# Altium schematic symbol library M1-Test-Board.SCHLIB: 52 symbols (part 2 of 2)
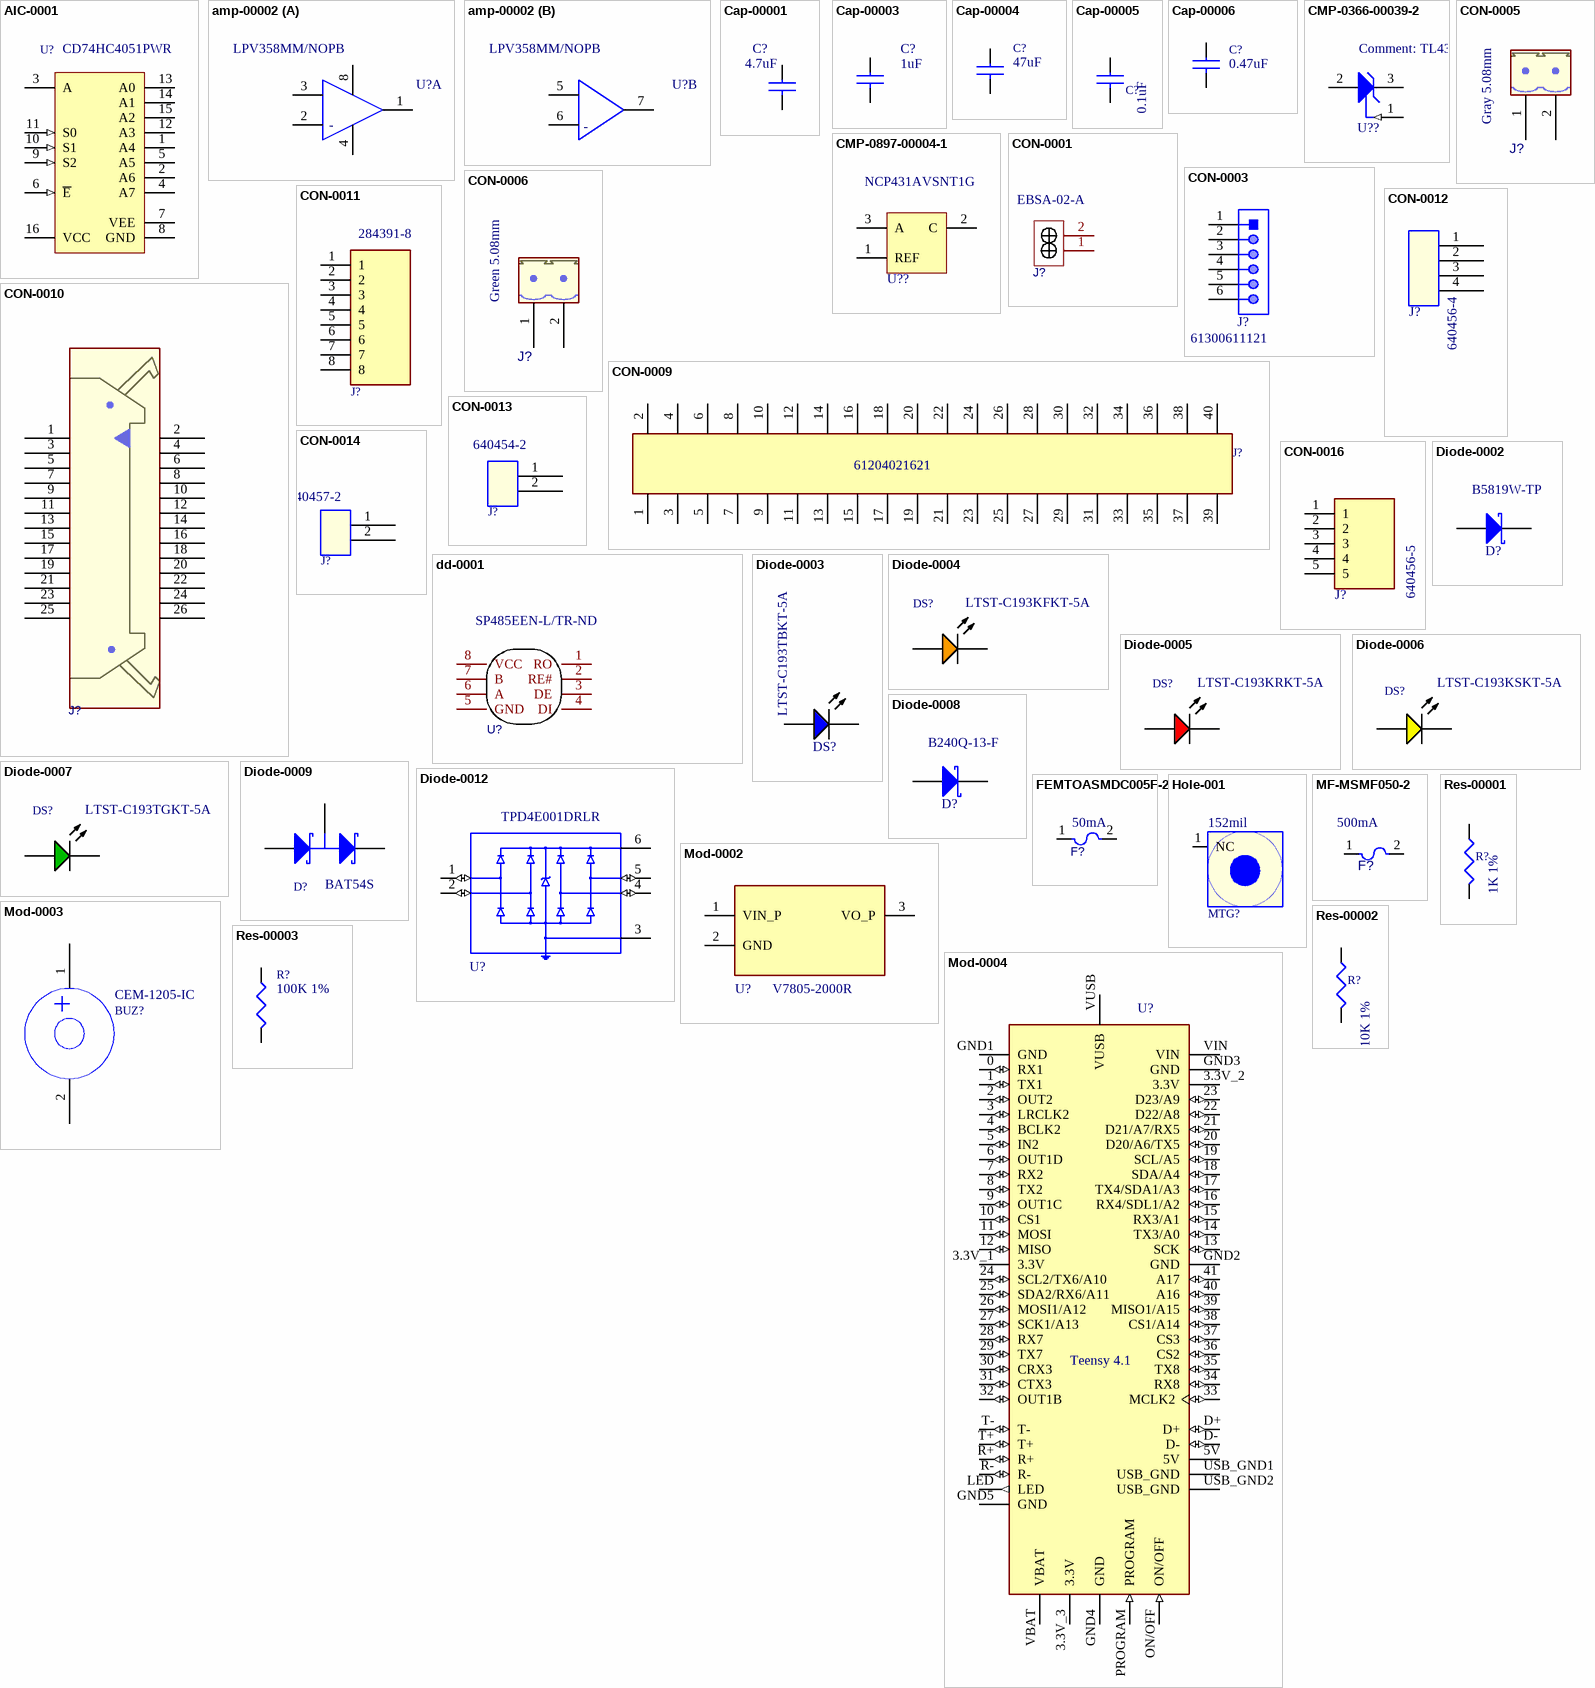
[diagram p2: symbols AIC-0001 to Res-00003]

## Diode-0012
designator U?, comment TPD4E001DRLR
TVS DIODE 5.5VWM SOT6; Manufacturer: Texas Instruments; Capacitance: 1.5pF; Max Power Dissipation: 100W; Breakdown Voltage: 11V; Direction: Unidirectional; Reverse Standoff Voltage: 5.5V; Clamping Voltage: 105.5V; Power Line Protection: Yes; Number of Channels: 4; Leakage Current: 1nA; Peak Pulse Current: 5.5A; Interface: LVDS,USB,Ethernet; Part Name: Diode-0012; Supplier 1: Digi-Key; Supplier Part Number 1: 296-21887-1-ND; Manufacturer Part Number: TPD4E001DRLR; RoHS: Yes; Category: ESD and Circuit Protection ICs; Stock 1: 42388; Pricing 1: 1=0.66000, 10=0.58100, 100=0.44520, 500=0.351; Mount: Surface Mount; Case/Package: SOT; Packaging: Tape and Reel; RoHS Compliant: Yes; ComponentLink1URL: https://datasheet.ciiva.com/5839/1535398-5839; ComponentLink1Description: https://datasheet.ciiva.com/5839/1535398-5839; ComponentLink2URL: https://datasheet.ciiva.com/22696/1831342-226; ComponentLink2Description: https://datasheet.ciiva.com/22696/1831342-226; ComponentLink3URL: https://datasheet.ciiva.com/1219/tpd4e001-121; ComponentLink3Description: https://datasheet.ciiva.com/1219/tpd4e001-121; Number of Pins: 6; Min Operating Temperature: -40°C; Max Operating Temperature: 85°C; Package Quantity: 1; Series: -; Radiation Hardening: No; Lead Free: Lead Free; ComponentLink4URL: https://datasheet.ciiva.com/15134/getdatashee; ComponentLink4Description: https://datasheet.ciiva.com/15134/getdatashee; ComponentLink5URL: https://datasheet.ciiva.com/7659/1853592-7659; ComponentLink5Description: https://datasheet.ciiva.com/7659/1853592-7659; ComponentLink6URL: https://datasheet.ciiva.com/338/tpd4e001-3380; ComponentLink6Description: https://datasheet.ciiva.com/338/tpd4e001-3380; ComponentLink7URL: https://datasheet.ciiva.com/338/tpd4e001-3380; ComponentLink7Description: https://datasheet.ciiva.com/338/tpd4e001-3380; ComponentLink8URL: https://datasheet.ciiva.com/338/tpd4e001-3380; ComponentLink8Description: https://datasheet.ciiva.com/338/tpd4e001-3380; LCSC Part Number: C527516; Length: 1.6mm; Depth: 1.2mm; Width: 1.2mm; Height: 0.55mm; Contact Plating: Gold; Weight: 9.9E-05oz; Termination: SMD/SMT; REACH SVHC: No SVHC; Min Breakdown Voltage: 11V; Peak Pulse Power: 100W; Polarity: Unidirectional; Working Voltage: 5.5V; Max Breakdown Voltage: 11V; Operating Supply Voltage: 5.5V; Number of Bidirectional Channels: 4; ComponentLink9URL: https://datasheet.ciiva.com/14423/tpd4e001-14; ComponentLink9Description: https://datasheet.ciiva.com/14423/tpd4e001-14
footprint SOTFL50P160X60-6N
pins: 1 IO1 (io), 2 IO2 (io), 3 GND (power), 4 IO3 (io), 5 IO4 (io), 6 VCC (power)

## FEMTOASMDC005F-2
designator F?, comment 50mA
Ptc Reset Fuse 15V 50MA 0603; Manufacturer: Littelfuse; Manufacturer: Bourns; Manufacturer Part Number: FEMTOASMDC005F-2; Max Current Rating: 10A; Trip Current: 150mA; Time to Trip: 100ms; Case/Package: 0603; Package Reference: MF-MSMF050-2; Package Description: 2-Pin Surface Mount Device, Body 4.55 x 3.24 mm; Mounting Technology: SM; Datasheet Version: Rev. AG, 08/2016; Packaging: Cut Tape; Datasheet URL: http://www.bourns.com/data/global/pdfs/mfmsmf.pdf; Component Type: Fuses; Part Name: FEMTOASMDC005F-2; Supplier 1: Digi-Key; Supplier Part Number 1: F9952CT-ND; RoHS: Yes; Category: PTC Resettable Fuses; Stock 1: 11749; Pricing 1: 1=0.90000, 5=0.87600, 10=0.82000, 50=0.67820,; Mount: Surface Mount; Case Code (Metric): 1608; Case Code (Imperial): 0603; Hold Current: 50mA; ComponentLink1URL: https://media.digikey.com/pdf/Data%20Sheets/L; ComponentLink1Description: https://media.digikey.com/pdf/Data%20Sheets/L; LCSC Part Number: C2832197
footprint F0603
pins: 1, 2

## Hole-001
designator MTG?, comment 152mil  (no BOM)
Plated; Part Name: Hole-001
footprint MNT-HOLE-169-350
pins: 1 NC

## MF-MSMF050-2
designator F?, comment 500mA
15VDC 500mA; Manufacturer: Bourns; Manufacturer Part Number: MF-MSMF050-2; Current Rating: 100A; Number of Terminals/Pins: 2; Trip Current: 1A; Voltage Rating: 15V; Resistance: 150mR; Power Dissipation: 800mW; Time to Trip: 0.15s; Aging: 1000 hr @ +85 °C (Passive); Approvals: UL,CSA,TUV; Case/Package: 1812; Package Reference: MF-MSMF050-2; Package Description: 2-Pin Surface Mount Device, Body 4.55 x 3.24 mm; Mounting Technology: SM; Datasheet Version: Rev. AG, 08/2016; Min Operating Temperature: -40°C; Max Operating Temperature: 85°C; RoHS Compliant: Yes; Packaging: Tape and Reel; Datasheet URL: http://www.bourns.com/data/global/pdfs/mfmsmf.pdf; Component Type: Fuses; Part Name: MF-MSMF050-2; Supplier 1: Digi-Key; Supplier Part Number 1: MF-MSMF050-2CT-ND; RoHS: Yes; Category: PTC Resettable Fuses; Stock 1: 59686; Pricing 1: 1=0.32000, 5=0.31000, 10=0.29500, 50=0.26360,; Mount: Surface Mount,PCB; Number of Pins: 2; Case Code (Metric): 4532; Case Code (Imperial): 1812; Contact Plating: Gold; Terminal Material: Gold; Package Quantity: 2000; Max Current Rating: 100A; Hold Current: 500mA; Series: MF-MSMF; Operating Supply Voltage: 15V; Termination: SMD/SMT; Voltage Rating (DC): 15V; Length: 4.73mm; Width: 3.41mm; Height: 0.85mm; Radiation Hardening: No; REACH SVHC: No SVHC; Lead Free: Lead Free; ComponentLink1URL: https://datasheet.ciiva.com/34302/1164200-343; ComponentLink1Description: https://datasheet.ciiva.com/34302/1164200-343; ComponentLink2URL: https://datasheet.ciiva.com/1228/1786007-1228; ComponentLink2Description: https://datasheet.ciiva.com/1228/1786007-1228; ComponentLink3URL: https://datasheet.ciiva.com/32426/mf-msmf-ser; ComponentLink3Description: https://datasheet.ciiva.com/32426/mf-msmf-ser; ComponentLink4URL: https://datasheet.ciiva.com/22749/1695373-227; ComponentLink4Description: https://datasheet.ciiva.com/22749/1695373-227; ComponentLink5URL: https://datasheet.ciiva.com/46395/1695373-463; ComponentLink5Description: https://datasheet.ciiva.com/46395/1695373-463; ComponentLink6URL: https://datasheet.ciiva.com/4501/mfmsmf-72300; ComponentLink6Description: https://datasheet.ciiva.com/4501/mfmsmf-72300; ComponentLink7URL: https://datasheet.ciiva.com/14537/70153434-14; ComponentLink7Description: https://datasheet.ciiva.com/14537/70153434-14; ComponentLink8URL: https://datasheet.ciiva.com/1274/1786007-1274; ComponentLink8Description: https://datasheet.ciiva.com/1274/1786007-1274; ComponentLink9URL: https://datasheet.ciiva.com/1274/1786007-1274; ComponentLink9Description: https://datasheet.ciiva.com/1274/1786007-1274; ComponentLink10URL: https://datasheet.ciiva.com/3019/mfmsmf-30196; ComponentLink10Description: https://datasheet.ciiva.com/3019/mfmsmf-30196; ComponentLink11URL: https://datasheet.ciiva.com/16205/mfmsmf-1620; ComponentLink11Description: https://datasheet.ciiva.com/16205/mfmsmf-1620; ComponentLink12URL: https://datasheet.ciiva.com/15226/getdatashee; ComponentLink12Description: https://datasheet.ciiva.com/15226/getdatashee; ComponentLink13URL: https://datasheet.ciiva.com/3019/mfmsmf-30196; ComponentLink13Description: https://datasheet.ciiva.com/3019/mfmsmf-30196; ComponentLink14URL: https://datasheet.ciiva.com/326/mfmsmf-326355; ComponentLink14Description: https://datasheet.ciiva.com/326/mfmsmf-326355; ComponentLink15URL: https://datasheet.ciiva.com/326/mfmsmf-326356; ComponentLink15Description: https://datasheet.ciiva.com/326/mfmsmf-326356; ComponentLink16URL: https://datasheet.ciiva.com/326/mfmsmf-326354; ComponentLink16Description: https://datasheet.ciiva.com/326/mfmsmf-326354; LCSC Part Number: C17313
footprint BOUR-MF-MSMF050-2_V (SMD, 2-Leads, Body 4.55x3.24mm)
footprint FUSE_F050-2
pins: 1, 2

## Mod-0002
designator U?, comment V7805-2000R
Module DC-DC 12VIN 1-OUT 5V 2A 10W 3-Pin SIP Module; Manufacturer: CUI; Number of Outputs: 1; Efficiency: 91%; Min Input Voltage: 7V; Max Input Voltage: 18V; Isolation: Non-Isolated; Part Name: Mod-0002; Supplier 1: Digi-Key; Supplier Part Number 1: 102-2188-ND; Manufacturer Part Number: V7805-2000R; RoHS: Yes; Category: Board Mount Modules; Stock 1: 1153; Pricing 1: 1=9.85000, 5=9.77400, 10=9.70000, 25=9.55040,; Mount: Through Hole; Case/Package: SIP; Min Operating Temperature: -40°C; Max Operating Temperature: 85°C; Package Quantity: 44; Packaging: Rail/Tube; Output Power: 10W; Output Voltage: 5V; Voltage - Output 1: 5V; Max Output Current: 2A; Max Power Dissipation: 10W; Features: OTP,SCP; Series: V78-2000; Current - Output 1: 2A; Length: 0.69inch; Width: 0.45inch; Height: 0.35inch; Lead Free: Lead Free; RoHS Compliant: Yes; ComponentLink1URL: https://datasheet.ciiva.com/2374/v78xx-2000-2; ComponentLink1Description: https://datasheet.ciiva.com/2374/v78xx-2000-2; LCSC Part Number: N/A
footprint CONV_V7805-2000R
pins: 1 VIN_P (power), 2 GND (power), 3 VO_P (power)

## Mod-0003
designator BUZ?, comment CEM-1205-IC
12 mm, 5 Vdc, 92 dB, Through Hole, Driving Circuit, Magnetic Audio Indicator Buzzer; ADI Part Number: 3716-0001; Manufacturer: CUI Devices; S2 PN: S2-BZ-0001; Voltage: 5V; Current: 35mA; CLASS: DISCRETE; COMPSIDE: TOP; COMPLOC: [1301.000,1659.000]; COMPROT: 180; COMPGROUP: 0; COMPFIXED: NO; COMPHEIGHT: 0.000; PCB Footprint: BUZZ-MB5120C; COMPLOCKED: NO; COMPKEY: NO; DECOUPLER: NO; JLCPCB_PART: NA; S2PN: S2-BZ-0001; Part Name: Mod-0003; Supplier 1: Mouser; Supplier Part Number 1: 490-CEM1205IC; Manufacturer Part Number: CEM-1205-IC; RoHS: Yes; Category: Buzzers; Stock 1: 774; Pricing 1: 1=1.87000, 10=1.55000, 50=1.35000, 100=1.2700; Mount: Through Hole; LCSC Part Number: N/A
footprint BUZZ-MB5120C
pins: 1 POS (power), 2 NEG (power)

## Mod-0004
designator U?, comment Teensy 4.1
Teensy 4.1 Development Board; Manufacturer: SparkFun; Manufacturer Part Number: DEV-16771; Part Name: Mod-0004; Supplier 1: Digi-Key; Supplier Part Number 1: 1568-DEV-16771-ND; RoHS: No; Category: Embedded Processors and Controllers
footprint MODULE_DEV-16771
footprint MODULE_DEV-16771 - headers
pins: 0 RX1 (io), 1 TX1 (io), 2 OUT2 (io), 3 LRCLK2 (io), 3.3V_1 3.3V (power), 3.3V_2 3.3V (power), 3.3V_3 3.3V (power), 4 BCLK2 (io), 5 IN2 (io), 5V (power), 6 OUT1D (io), 7 RX2 (io), 8 TX2 (io), 9 OUT1C (io), 10 CS1 (io), 11 MOSI (io), 12 MISO (io), 13 SCK (io), 14 TX3/A0 (io), 15 RX3/A1 (io), 16 RX4/SDL1/A2 (io), 17 TX4/SDA1/A3 (io), 18 SDA/A4 (io), 19 SCL/A5 (io), 20 D20/A6/TX5 (io), 21 D21/A7/RX5 (io), 22 D22/A8 (io), 23 D23/A9 (io), 24 SCL2/TX6/A10 (io), 25 SDA2/RX6/A11 (io), 26 MOSI1/A12 (io), 27 SCK1/A13 (io), 28 RX7 (io), 29 TX7 (io), 30 CRX3 (io), 31 CTX3 (io), 32 OUT1B (io), 33 MCLK2 (io), 34 RX8 (io), 35 TX8 (io), 36 CS2 (io), 37 CS3 (io), 38 CS1/A14 (io), 39 MISO1/A15 (io), 40 A16 (io), 41 A17 (io), D+ (io), D- (io), GND1 GND (power), GND2 GND (power), GND3 GND (power), GND4 GND (power), GND5 GND (power), LED (out), ON/OFF (in), PROGRAM (in), R+ (io), R- (io), T+ (io), T- (io), USB_GND1 USB_GND (power), USB_GND2 USB_GND (power), VBAT, VIN (power), VUSB

## Res-00001
designator R?, comment 1K 1%
Thick Film 0402 1K Ohm 1% 1/8W 0402; Part Name: Res-00001; Manufacturer: TE Connectivity; Manufacturer Part Number: CRGP0402F1K0; Max Power Dissipation: 125mW; Temperature Coefficient: 100ppm/°C; Power Rating: 0.125W; Supplier 1: Digi-Key; Supplier Part Number 1: A130355CT-ND; RoHS: Yes; Category: Chip SMD Resistors; Stock 1: 16450; Pricing 1: 1=0.12000, 10=0.11100, 100=0.04270, 1000=0.01; Case/Package: 0402; Case Code (Metric): 1005; Case Code (Imperial): 0402; Min Operating Temperature: -55°C; Max Operating Temperature: 155°C; Packaging: Tape and Reel; Resistance: 1k; Resistor Type: Thick Film; Number of Terminations: 2; Tolerance: 1%; RoHS Compliant: Yes; ComponentLink1URL: https://www.te.com/commerce/DocumentDelivery/; ComponentLink1Description: https://www.te.com/commerce/DocumentDelivery/; ComponentLink4Description: none; LCSC Part Number: C21190; Mount: Surface Mount
footprint R0402
pins: 1, 2

## Res-00002
designator R?, comment 10K 1%
Thick Film 0402 10K OHM 1% 1/16W 0402; Part Name: Res-00002; Manufacturer: Yageo; Manufacturer Part Number: RC0402FR-0710KP; Max Power Dissipation: 63mW; Temperature Coefficient: 150ppm/°C; Power Rating: 62.5mW; Supplier 1: Digi-Key; Supplier Part Number 1: YAG1249CT-ND; RoHS: Yes; Category: Chip SMD Resistors; Stock 1: 161500; Pricing 1: 1=0.10000, 10=0.03600, 100=0.01450, 1000=0.00; Case/Package: 0402; Case Code (Metric): 1005; Case Code (Imperial): 0402; Min Operating Temperature: -55°C; Max Operating Temperature: 155°C; Packaging: Tape and Reel; Resistance: 10k; Resistor Type: Thick Film; Number of Terminations: 2; Tolerance: 1%; Features: Moisture Resistant; Length: 0.039inch; Width: 0.02inch; Height: 0.016inch; RoHS Compliant: Yes; ComponentLink1URL: http://www.yageo.com/NewPortal/yageodocoutput; ComponentLink1Description: http://www.yageo.com/NewPortal/yageodocoutput; LCSC Part Number: C25744; Mount: Surface Mount
footprint CC0603IPC
footprint R0603
footprint R0402
pins: 1, 2

## Res-00003
designator R?, comment 100K 1%
Thick Film 0402 100K OHM 1% 1/16W 0402; Part Name: Res-00003; Manufacturer: Stackpole Electronics; Manufacturer Part Number: RMCF0402FT100K; Power Rating: 62.5mW; Supplier 1: Digi-Key; Supplier Part Number 1: RMCF0402FT100KCT-ND; RoHS: Yes; Category: Chip SMD Resistors; Stock 1: 13703190; Pricing 1: 1=0.10000, 10=0.01500, 100=0.00610, 1000=0.00; Case/Package: 0402; Case Code (Metric): 1005; Case Code (Imperial): 0402; LCSC Part Number: C25741; Mount: Surface Mount; Contact Plating: Tin,Matte
footprint CC0603IPC
footprint R0603
footprint R0402
pins: 1, 2

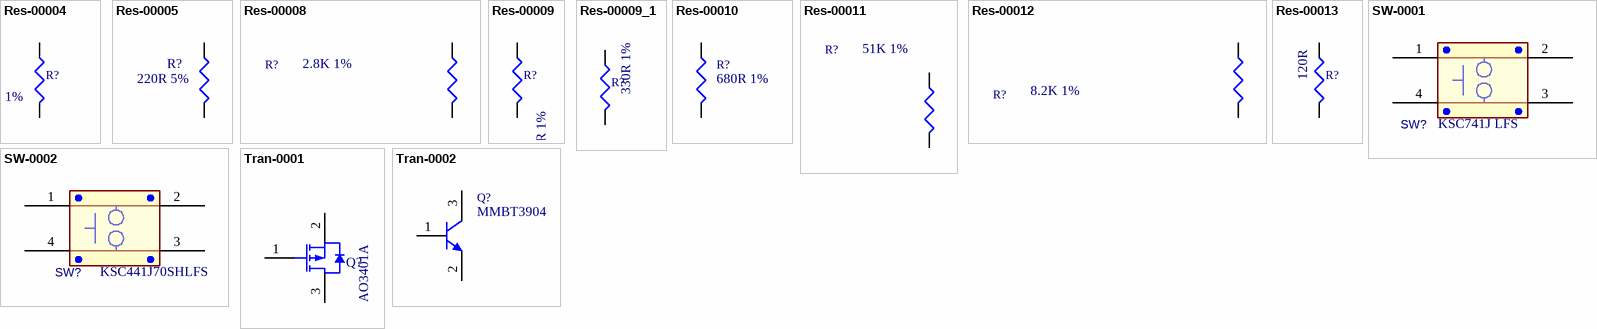
[diagram p1: symbols Res-00004 to Tran-0002]

## Res-00004
designator R?, comment 5.1K 1%
Thick Film 0402 5.1K Ohm 1% 1/16W 0402; Part Name: Res-00004; Manufacturer: Stackpole Electronics; Manufacturer Part Number: RMCF0402FT5K10; Max Power Dissipation: 63mW; Temperature Coefficient: 100ppm/°C; Power Rating: 62.5mW; Supplier 1: Digi-Key; Supplier Part Number 1: RMCF0402FT5K10CT-ND; RoHS: Yes; Category: Chip SMD Resistors; Stock 1: 131490; Pricing 1: 1=0.10000, 10=0.01500, 100=0.00610, 1000=0.00; Case/Package: 0402; Case Code (Metric): 1005; Case Code (Imperial): 0402; Min Operating Temperature: -55°C; Max Operating Temperature: 155°C; Packaging: Tape and Reel; Resistance: 5.1k; Resistor Type: Thick Film; Number of Terminations: 2; Tolerance: 1%; Features: Automotive AEC-Q200; Length: 0.039inch; Width: 0.02inch; Height: 0.016inch; RoHS Compliant: Yes; ComponentLink1URL: http://components.arrow.com/part/dataview/513; ComponentLink1Description: http://components.arrow.com/part/dataview/513; ComponentLink2URL: https://www.seielect.com/catalog/SEI-RMCF_RMC; ComponentLink2Description: https://www.seielect.com/catalog/SEI-RMCF_RMC; ComponentLink3URL: https://www.seielect.com/catalog/SEI-Packagin; ComponentLink3Description: https://www.seielect.com/catalog/SEI-Packagin; ComponentLink4URL: https://datasheet.ciiva.com/15193/getdatashee; ComponentLink4Description: https://datasheet.ciiva.com/15193/getdatashee; LCSC Part Number: C25905; Mount: Surface Mount; Contact Plating: Tin,Matte; Series: RMCF; Radiation Hardening: No; Size Code: 0402; Construction: Rectangular; Depth: 0.5mm; Military Standard: Not; Lead Free: Lead Free
footprint R0402
pins: 1, 2

## Res-00005
designator R?, comment 220R 5%
Thick Film  220 OHM 5% 1W 2512; Part Name: Res-00005; Manufacturer: Stackpole Electronics; Manufacturer Part Number: RMCF2512JT220R; Temperature Coefficient: 200ppm/°C; Supplier 1: Digi-Key; Supplier Part Number 1: RMCF2512JT220RCT-ND; RoHS: Yes; Category: Chip SMD Resistors; Stock 1: 85; Pricing 1: 1=0.30000, 10=0.25300, 100=0.09890, 1000=0.04; Case/Package: 2512; Case Code (Metric): 6432; Case Code (Imperial): 2512; Min Operating Temperature: -55°C; Max Operating Temperature: 155°C; Packaging: Tape and Reel; Resistance: 220R; Resistor Type: Thick Film; Number of Terminations: 2; Tolerance: 5%; Max Power Dissipation: 1W; Features: Automotive AEC-Q200; Length: 0.248inch; Width: 0.126inch; Height: 0.028inch; RoHS Compliant: Yes; ComponentLink1URL: https://datasheet.ciiva.com/15193/getdatashee; ComponentLink1Description: https://datasheet.ciiva.com/15193/getdatashee; LCSC Part Number: C38808; Mount: Surface Mount; Contact Plating: Tin,Matte; Power Rating: 1W; Series: RMCF; Radiation Hardening: No; Size Code: 2512; Construction: Rectangular; Depth: 3.2mm; Military Standard: Not; Lead Free: Lead Free
footprint RESC6331X75N
pins: 1, 2

## Res-00008
designator R?, comment 2.8K 1%
Thick Film 0402 2.8K Ohm 1% 0.063W ±100ppm/°C Molded SMD Paper T/R; Part Name: Res-00008; Manufacturer: Stackpole Electronics; Manufacturer Part Number: RMCF0402FT2K80; Resistance: 2.8kR; Max Power Dissipation: 63mW; Power Rating: 62.5mW; Supplier 1: Digi-Key; Supplier Part Number 1: RMCF0402FT2K80CT-ND; RoHS: Yes; Category: Chip SMD Resistors; Stock 1: 141882; Pricing 1: 1=0.10000, 10=0.01500, 100=0.00610, 1000=0.00; Case/Package: 0402; Case Code (Metric): 1005; Case Code (Imperial): 0402; Min Operating Temperature: -55°C; Max Operating Temperature: 155°C; Packaging: Tape and Reel; Resistor Type: Thick Film; Number of Terminations: 2; Tolerance: 1%; Temperature Coefficient: 100ppm/°C; Features: Automotive AEC-Q200; Length: 0.039inch; Width: 0.02inch; Height: 0.016inch; RoHS Compliant: Yes; ComponentLink1URL: https://www.seielect.com/catalog/SEI-RMCF_RMC; ComponentLink1Description: https://www.seielect.com/catalog/SEI-RMCF_RMC; ComponentLink2URL: https://www.seielect.com/Catalog/SEI-RMCF_RMC; ComponentLink2Description: https://www.seielect.com/Catalog/SEI-RMCF_RMC; ComponentLink3URL: https://www.seielect.com/catalog/SEI-Packagin; ComponentLink3Description: https://www.seielect.com/catalog/SEI-Packagin; LCSC Part Number: C62741; Mount: Surface Mount; Contact Plating: Tin,Matte; Series: RMCF; Radiation Hardening: No; Lead Free: Lead Free
footprint R0402
pins: 1, 2

## Res-00009
designator R?, comment 330R 1%
Thick Film 0402 330 Ohm 1% 1/16W ±100ppm/°C Molded SMD Paper T/R; Part Name: Res-00009; Manufacturer: Yageo; Manufacturer Part Number: AF0402FR-07330RL; Max Power Dissipation: 63mW; Power Rating: 62.5mW; Supplier 1: Digi-Key; Supplier Part Number 1: 13-AF0402FR-07330RLCT-ND; RoHS: Yes; Category: Chip SMD Resistors; Stock 1: 15948; Pricing 1: 1=0.10000, 10=0.05800, 100=0.02360, 1000=0.01; Case/Package: 0402; Case Code (Metric): 1005; Case Code (Imperial): 0402; Min Operating Temperature: -55°C; Max Operating Temperature: 155°C; Packaging: Tape and Reel; Resistance: 330R; Resistor Type: Thick Film; Number of Terminations: 2; Tolerance: 1%; Temperature Coefficient: 100ppm/°C; Features: Moisture Resistant,Anti-Sulfur; Length: 0.039inch; Width: 0.02inch; Height: 0.015inch; RoHS Compliant: Yes; ComponentLink1URL: http://www.yageo.com/documents/recent/PYu-AF_; ComponentLink1Description: http://www.yageo.com/documents/recent/PYu-AF_; LCSC Part Number: C12246; Mount: Surface Mount; Radiation Hardening: No
footprint R0402
pins: 1, 2

## Res-00009_1
designator R?, comment 330R 1%
Thick Film 0402 120 Ohm 1% 1/16W ±100ppm/°C Molded SMD Paper T/R; Part Name: Res-00009; Manufacturer: Yageo; Manufacturer Part Number: AF0402FR-07330RL; Max Power Dissipation: 63mW; Power Rating: 62.5mW; Supplier 1: Digi-Key; Supplier Part Number 1: 13-AF0402FR-07330RLCT-ND; RoHS: Yes; Category: Chip SMD Resistors; Stock 1: 15948; Pricing 1: 1=0.10000, 10=0.05800, 100=0.02360, 1000=0.01; Case/Package: 0402; Case Code (Metric): 1005; Case Code (Imperial): 0402; Min Operating Temperature: -55°C; Max Operating Temperature: 155°C; Packaging: Tape and Reel; Resistance: 330R; Resistor Type: Thick Film; Number of Terminations: 2; Tolerance: 1%; Temperature Coefficient: 100ppm/°C; Features: Moisture Resistant,Anti-Sulfur; Length: 0.039inch; Width: 0.02inch; Height: 0.015inch; RoHS Compliant: Yes; ComponentLink1URL: http://www.yageo.com/documents/recent/PYu-AF_; ComponentLink1Description: http://www.yageo.com/documents/recent/PYu-AF_; LCSC Part Number: C12246; Mount: Surface Mount; Radiation Hardening: No
footprint R0402
pins: 1, 2

## Res-00010
designator R?, comment 680R 1%
Thick Film 0402 680 Ohm 1% 0.063W(1/16W) ±100ppm/C Pad SMD Automotive T/R; Part Name: Res-00010; Manufacturer: Stackpole Electronics; Manufacturer Part Number: RMCF0402FT680R; Max Power Dissipation: 63mW; Temperature Coefficient: 100ppm/°C; Power Rating: 62.5mW; Supplier 1: Digi-Key; Supplier Part Number 1: RMCF0402FT680RCT-ND; RoHS: Yes; Category: Chip SMD Resistors; Stock 1: 143190; Pricing 1: 1=0.10000, 10=0.01500, 100=0.00610, 1000=0.00; Case/Package: 0402; Case Code (Metric): 1005; Case Code (Imperial): 0402; Min Operating Temperature: -55°C; Max Operating Temperature: 155°C; Packaging: Tape and Reel; Resistance: 680R; Resistor Type: Thick Film; Number of Terminations: 2; Tolerance: 1%; Features: Automotive AEC-Q200; Length: 0.039inch; Width: 0.02inch; Height: 0.016inch; RoHS Compliant: Yes; ComponentLink1URL: http://www.seielect.com/Catalog/SEI-RMCF_RMCP; ComponentLink1Description: http://www.seielect.com/Catalog/SEI-RMCF_RMCP; ComponentLink2URL: https://www.seielect.com/catalog/SEI-RMCF_RMC; ComponentLink2Description: https://www.seielect.com/catalog/SEI-RMCF_RMC; ComponentLink3URL: https://www.seielect.com/Catalog/SEI-RMCF_RMC; ComponentLink3Description: https://www.seielect.com/Catalog/SEI-RMCF_RMC; ComponentLink4URL: https://www.seielect.com/catalog/SEI-Packagin; ComponentLink4Description: https://www.seielect.com/catalog/SEI-Packagin; LCSC Part Number: C25130; Mount: Surface Mount; Contact Plating: Tin,Matte; Series: RMCF; Radiation Hardening: No; Package Quantity: 10000
footprint R0402
pins: 1, 2

## Res-00011
designator R?, comment 51K 1%
Res Thick Film 0402 51K Ohm 1% 0.063W(1/16W) ±100ppm/C Pad SMD Automotive T/R; Part Name: Res-00011; Manufacturer: Stackpole Electronics; Manufacturer Part Number: RMCF0402FT51K0; Resistance: 51kR; Max Power Dissipation: 63mW; Temperature Coefficient: 100ppm/°C; Supplier 1: Digi-Key; Supplier Part Number 1: RMCF0402FT51K0CT-ND; RoHS: Yes; Category: Chip SMD Resistors; Stock 1: 588931; Pricing 1: 1=0.10000, 10=0.01500, 100=0.00610, 1000=0.00; Case/Package: 0402; Case Code (Metric): 1005; Case Code (Imperial): 0402; Min Operating Temperature: -55°C; Max Operating Temperature: 155°C; Packaging: Tape and Reel; Resistor Type: Thick Film; Number of Terminations: 2; Tolerance: 1%; Features: Automotive AEC-Q200; Length: 0.039inch; Width: 0.02inch; Height: 0.016inch; RoHS Compliant: Yes; ComponentLink1URL: http://components.arrow.com/part/dataview/535; ComponentLink1Description: http://components.arrow.com/part/dataview/535; ComponentLink2URL: https://www.seielect.com/catalog/SEI-RMCF_RMC; ComponentLink2Description: https://www.seielect.com/catalog/SEI-RMCF_RMC; ComponentLink3URL: https://www.seielect.com/Catalog/SEI-RMCF_RMC; ComponentLink3Description: https://www.seielect.com/Catalog/SEI-RMCF_RMC; ComponentLink4URL: https://www.seielect.com/catalog/SEI-Packagin; ComponentLink4Description: https://www.seielect.com/catalog/SEI-Packagin; LCSC Part Number: C25794; Mount: Surface Mount; Contact Plating: Tin,Matte; Power Rating: 63mW; Series: RMCF; Radiation Hardening: No
footprint R0402
pins: 1, 2

## Res-00012
designator R?, comment 8.2K 1%
Res Thick Film 0402 8.2K Ohm 5% 0.063W ±100ppm/°C Molded SMD Paper T/R; Part Name: Res-00012; Manufacturer: Stackpole Electronics; Manufacturer Part Number: RMCF0402JT8K20; Resistance: 8.2kR; Max Power Dissipation: 63mW; Supplier 1: Digi-Key; Supplier Part Number 1: 738-RMCF0402JT8K20CT-ND; RoHS: Yes; Category: Chip SMD Resistors; Stock 1: 9938; Pricing 1: 1=0.10000, 10=0.01200, 100=0.00470, 1000=0.00; Case/Package: 0402; Case Code (Metric): 1005; Case Code (Imperial): 0402; Min Operating Temperature: -55°C; Max Operating Temperature: 155°C; Packaging: Tape and Reel; Resistor Type: Thick Film; Number of Terminations: 2; Tolerance: 5%; Temperature Coefficient: 100ppm/°C; Features: Automotive AEC-Q200; Length: 0.039inch; Width: 0.02inch; Height: 0.016inch; RoHS Compliant: Yes; ComponentLink1URL: https://www.seielect.com/Catalog/SEI-RMCF_RMC; ComponentLink1Description: https://www.seielect.com/Catalog/SEI-RMCF_RMC; ComponentLink2URL: https://www.seielect.com/catalog/sei-rmcf_rmc; ComponentLink2Description: https://www.seielect.com/catalog/sei-rmcf_rmc; ComponentLink3URL: https://www.seielect.com/catalog/SEI-RMCF_RMC; ComponentLink3Description: https://www.seielect.com/catalog/SEI-RMCF_RMC; ComponentLink4URL: http://www.seielect.com/Catalog/Sei-RMC.pdf?s; ComponentLink4Description: http://www.seielect.com/Catalog/Sei-RMC.pdf?s; LCSC Part Number: C25924; Mount: Surface Mount; Contact Plating: Tin,Matte; Power Rating: 63mW; Series: RMCF; Radiation Hardening: No; Size Code: 0402; Lead Free: Lead Free
footprint R0402
pins: 1, 2

## Res-00013
designator R?, comment 120R
Res Thick Film 0402 120 Ohm 1% 0.063W(1/16W) ±100ppm/C Pad SMD Automotive T/R; Part Name: Res-00013; Manufacturer: Stackpole Electronics; Manufacturer Part Number: RMCF0402FT120R; Max Power Dissipation: 63mW; Temperature Coefficient: 100ppm/°C; Supplier 1: Digi-Key; Supplier Part Number 1: RMCF0402FT120RCT-ND; RoHS: Yes; Category: Chip SMD Resistors; Stock 1: 195943; Pricing 1: 1=0.10000, 10=0.01500, 100=0.00610, 1000=0.00; Case/Package: 0402; Case Code (Metric): 1005; Case Code (Imperial): 0402; Min Operating Temperature: -55°C; Max Operating Temperature: 155°C; Packaging: Tape and Reel; Resistance: 120R; Resistor Type: Thick Film; Number of Terminations: 2; Tolerance: 1%; Features: Automotive AEC-Q200; Length: 0.039inch; Width: 0.02inch; Height: 0.016inch; RoHS Compliant: Yes; ComponentLink1URL: http://components.arrow.com/part/dataview/514; ComponentLink1Description: http://components.arrow.com/part/dataview/514; ComponentLink2URL: https://www.seielect.com/catalog/SEI-RMCF_RMC; ComponentLink2Description: https://www.seielect.com/catalog/SEI-RMCF_RMC; ComponentLink3URL: http://www.seielect.com/Catalog/SEI-RMCF_RMCP; ComponentLink3Description: http://www.seielect.com/Catalog/SEI-RMCF_RMCP; ComponentLink4URL: https://www.seielect.com/Catalog/SEI-RMCF_RMC; ComponentLink4Description: https://www.seielect.com/Catalog/SEI-RMCF_RMC; LCSC Part Number: C25079; Mount: Surface Mount; Contact Plating: Tin,Matte; Power Rating: 63mW; Series: RMCF; Radiation Hardening: No; Package Quantity: 10000; ComponentLink5URL: https://www.seielect.com/catalog/SEI-Packagin; ComponentLink5Description: https://www.seielect.com/catalog/SEI-Packagin
footprint R0402
pins: 1, 2

## SW-0001
designator SW?, comment KSC741J LFS
Switch Tactile N.O. SPST Round Button J-Bend; Part Name: SW-0001; Manufacturer: ITT C&K; Mechanical Life: 300000Cycles; Actuator Color: Blue; Operating Force: 4N; Max Current Rating: 50mA; Voltage Rating (DC): 32V; Illumination Type: Non-Illuminated; Switch Function: Off-Mom; Actuator Type: Standard; Switch Travel: 0.4mm; Actuator Length: 1.7mm; Power Rating: 1W; Ratings: IP67,Waterproof,Dust Tight; LCSC Part Number: C221766; Supplier 1: Digi-Key; Supplier Part Number 1: CKN10309CT-ND; Manufacturer Part Number: KSC741JLFS; RoHS: Yes; Category: Tactile Switches; Stock 1: 157978; Pricing 1: 1=0.59000, 10=0.56600, 25=0.54520, 100=0.4719; Mount: Surface Mount; Case/Package: SMD/SMT; Contact Material: Silver; Contact Plating: Silver; Min Operating Temperature: -40°C; Max Operating Temperature: 85°C; Packaging: Tape and Reel; Throw Configuration: SPST; Max Voltage Rating (DC): 32V; Termination: J-Bend; Orientation: Straight; Package Quantity: 1000; Current Rating: 50mA; Series: KSC; Length: 6.2mm; Depth: 6.8mm; Radiation Hardening: No; REACH SVHC: No SVHC; Lead Free: Lead Free; RoHS Compliant: Yes; ComponentLink1URL: https://datasheet.ciiva.com/16458/ksc741jlfs-; ComponentLink1Description: https://datasheet.ciiva.com/16458/ksc741jlfs-; ComponentLink2URL: https://datasheet.ciiva.com/2900/ksc-2900326.; ComponentLink2Description: https://datasheet.ciiva.com/2900/ksc-2900326.; ComponentLink3URL: https://datasheet.ciiva.com/2900/ksc-2900327.; ComponentLink3Description: https://datasheet.ciiva.com/2900/ksc-2900327.; ComponentLink4URL: https://datasheet.ciiva.com/2900/ksc-2900328.; ComponentLink4Description: https://datasheet.ciiva.com/2900/ksc-2900328.; ComponentLink5URL: https://datasheet.ciiva.com/22829/0900766b80a; ComponentLink5Description: https://datasheet.ciiva.com/22829/0900766b80a; ComponentLink6URL: https://datasheet.ciiva.com/16298/ksc441j70sh; ComponentLink6Description: https://datasheet.ciiva.com/16298/ksc441j70sh; ComponentLink7URL: https://datasheet.ciiva.com/18144/ksc-22jan15; ComponentLink7Description: https://datasheet.ciiva.com/18144/ksc-22jan15; ComponentLink8URL: https://datasheet.ciiva.com/2900/ksc-2900355.; ComponentLink8Description: https://datasheet.ciiva.com/2900/ksc-2900355.; Size: 6.2mm; ComponentLink9URL: https://datasheet.ciiva.com/2900/ksc-2900356.; ComponentLink9Description: https://datasheet.ciiva.com/2900/ksc-2900356.; ComponentLink10URL: https://datasheet.ciiva.com/2900/ksc-2900357.; ComponentLink10Description: https://datasheet.ciiva.com/2900/ksc-2900357.; ComponentLink11URL: https://datasheet.ciiva.com/16155/ksc-11mar10; ComponentLink11Description: https://datasheet.ciiva.com/16155/ksc-11mar10
footprint SON4_KSC741JLFS_CNK-blue
pins: 1, 2, 3, 4

## SW-0002
designator SW?, comment KSC441J70SHLFS
Switch Tactile N.O. SPST Round Button J-Bend; Part Name: SW-0002; Manufacturer: ITT C&K; Actuator Material: Nylon,Polyamide,PA66; Mechanical Life: 300000Cycles; Operating Force: 5N; Max Current Rating: 50mA; Voltage Rating (DC): 32V; Illumination Type: Non-Illuminated,Illuminated; Switch Function: Off-Mom; Actuator Type: Standard; Switch Travel: 0.75mm; Actuator Length: 2.6mm; Power Rating: 1W; LCSC Part Number: C221748; Supplier 1: Digi-Key; Supplier Part Number 1: 401-1784-1-ND; Manufacturer Part Number: KSC441J70SHLFS; RoHS: Yes; Category: Tactile Switches; Stock 1: 60296; Pricing 1: 1=0.61000, 10=0.58400, 25=0.56200, 100=0.4863; Mount: Surface Mount; Case/Package: SMD/SMT; Contact Material: Silver; Contact Plating: Silver; Min Operating Temperature: -40°C; Max Operating Temperature: 85°C; Packaging: Tape and Reel; Throw Configuration: SPST; Max Voltage Rating (DC): 32V; Termination: J-Bend; Orientation: Straight; Contact Current Rating: 50mA; Package Quantity: 1; Current Rating: 50mA; Series: KSC; Length: 6.2mm; Depth: 6.8mm; REACH SVHC: No SVHC; Lead Free: Lead Free; ComponentLink1URL: https://datasheet.ciiva.com/29903/getdatashee; ComponentLink1Description: https://datasheet.ciiva.com/29903/getdatashee; ComponentLink2URL: https://datasheet.ciiva.com/14920/pts645-1492; ComponentLink2Description: https://datasheet.ciiva.com/14920/pts645-1492; ComponentLink3URL: https://datasheet.ciiva.com/22637/1707731-226; ComponentLink3Description: https://datasheet.ciiva.com/22637/1707731-226; Color: Black
footprint SON4_KSC741JLFS_CNK-red
pins: 1, 2, 3, 4

## Tran-0001
designator Q?, comment AO3401A
Mosfet P-channel 30V 4A SOT23-3; Manufacturer: Alpha & Omega Semiconductor; Manufacturer Part Number: AO3401AL; Output Power (Max): NotRequiredW; Power Dissipation: 350mW; Rad Hardened: No; Drain Efficiency: NotRequired%; Noise Figure: NotRequireddB; Frequency (Max): NotRequiredMHz; Number of  Elements: 1; Gate-Source Voltage (Max): ?12V; Channel Mode: Enhancement; Drain-Source On-Res: 0.044ohm; Type: PowerMOSFET; Polarity: NPN; Rds On Max: 50mR; Input Capacitance: 645pF; Max Power Dissipation: 1.4W; Collector Base Voltage (VCBO): 60V; Collector Emitter Breakdown Voltage: 40V; Collector Emitter Saturation Voltage: 300mV; Current Rating: 200mA; Element Configuration: Single; Emitter Base Voltage (VEBO): 6V; Frequency: 300MHz; hFE Min: 100; Package URL: http://www.aosmd.com/res/packaging_information/SOT-23-3L.pdf; Datasheet URL: http://www.aosmd.com/res/data_sheets/AO3401A.pdf; Package Type: SOT-23; Drain-Source On-Volt: 30V; Package Description: 3-Pin Small Outline Transistor, Body 2.95 x 1.6 mm, Pitch 0.95 mm; Mounting: SurfaceMount; Drain Current (Max): 4A; Manufacturer URL: http://www.aosmd.com/; Continuous Drain Current: 4A; Package Reference: SOT-23-3L; Mounting Technology: SurfaceMount; Operating Temperature Classification: Military; Power Gain: NotRequireddB; Datasheet Version: Rev. 3, 03/2011; Operating Temp Range: -55Cto150C; Pin Count: 3; Part Name: Tran-0001; LCSC Part Number: C15127; Supplier 1: Digi-Key; Supplier Part Number 1: AO3401AL-ND; RoHS: Yes; Mount: Surface Mount; Case/Package: SOT-23-3; Min Operating Temperature: -55°C; Max Operating Temperature: 150°C; Packaging: Tape and Reel; Drain to Source Voltage (Vdss): 30V; Continuous Drain Current (ID): 4A; ComponentLink1URL: https://media.digikey.com/pdf/Data%20Sheets/A; ComponentLink1Description: https://media.digikey.com/pdf/Data%20Sheets/A; Category: BJTs; Collector Emitter Voltage (VCEO): 40V; ComponentLink2Description: https://datasheet.ciiva.com/7972/2n3904-79726; ComponentLink2URL: https://datasheet.ciiva.com/7972/2n3904-79726; ComponentLink3Description: https://datasheet.ciiva.com/22653/1922793-226; ComponentLink3URL: https://datasheet.ciiva.com/22653/1922793-226; ComponentLink4Description: https://datasheet.ciiva.com/11201/mmbt3904-11; ComponentLink4URL: https://datasheet.ciiva.com/11201/mmbt3904-11; ComponentLink5Description: https://datasheet.ciiva.com/16850/mmbt3904-16; ComponentLink5URL: https://datasheet.ciiva.com/16850/mmbt3904-16; ComponentLink6Description: https://datasheet.ciiva.com/971/mmbt3904-9718; ComponentLink6URL: https://datasheet.ciiva.com/971/mmbt3904-9718; ComponentLink7Description: https://datasheet.ciiva.com/971/mmbt3904-9718; ComponentLink7URL: https://datasheet.ciiva.com/971/mmbt3904-9718; ComponentLink8Description: https://datasheet.ciiva.com/971/mmbt3904-9718; ComponentLink8URL: https://datasheet.ciiva.com/971/mmbt3904-9718; Contact Plating: Tin,Matte; Gain Bandwidth Product: 300MHz; Height: 0.25inch; Lead Free: Lead Free; Length: 0.25inch; Max Breakdown Voltage: 40V; Max Collector Current: 200mA; Max Frequency: 300MHz; Number of Elements: 1; Number of Pins: 3; Package Quantity: 1; Pricing 1: 1=0.03200, 10=0.02500, 100=0.01700, 500=0.017; Radiation Hardening: No; REACH SVHC: No SVHC; RoHS Compliant: Yes; Termination: SMD/SMT; Transition Frequency: 300MHz; Voltage Rating (DC): 40V; Weight: 0.03g; Width: 0.25inch
footprint AO-SOT-23-3L_V (SOT23, 3-Leads, Body 3.1x1.8mm, Pitch 0.95mm)
pins: 1 GATE, 2 SOURCE, 3 DRAIN

## Tran-0002
designator Q?, comment MMBT3904
Trans GP BJT NPN 60V 0.2A 350mW Automotive 3-Pin SOT-23 T/R; Manufacturer: ON Semiconductor / Fairchild; Manufacturer: ON Semiconductor; Elements: 1; Power: 225mW; Frequency: 250MHz; Vce Max: 300mV; Max Collector Current: 200mA; Collector-emitter Voltage-Max: 400mV; Mounting Technology: SM; Min Operating Temperature: -55°C; Datasheet URL: http://www.onsemi.cn/pub_link/Collateral/MMBT3904LT1-D.PDF; Pins: 3; Package Description: 3-Pin Small Outline Transistor, Body 2.9 x 1.3 mm, Pitch 0.95 mm; Max Operating Temperature: 150°C; Package Reference: SOT-23 (318-08); RoHS Compliant: Yes; Datasheet Version: Rev. 12, 11/2012; Case/Package: SOT-23-3; Manufacturer Part Number: MMBT3904; Component Type: Transistors; Part Name: Tran-0002; LCSC Part Number: C20526; Supplier 1: Newark; Supplier Part Number 1: 58K9431; RoHS: Yes; Mount: Surface Mount; ComponentLink1URL: https://datasheet.ciiva.com/22664/1708270-226; ComponentLink1Description: https://datasheet.ciiva.com/22664/1708270-226; Polarity: NPN; Number of Elements: 1; Max Frequency: 250MHz; Length: 2.9mm; Width: 1.3mm; Height: 0.94mm; Radiation Hardening: No; Lead Free: Lead Free; REACH SVHC: No SVHC; ComponentLink2URL: https://datasheet.ciiva.com/4721/mmbt3906lt1-; ComponentLink2Description: https://datasheet.ciiva.com/4721/mmbt3906lt1-; ComponentLink3URL: https://datasheet.ciiva.com/11201/mmbt3906lt1; ComponentLink3Description: https://datasheet.ciiva.com/11201/mmbt3906lt1; ComponentLink4URL: https://datasheet.ciiva.com/16387/mmbt3906lt1; ComponentLink4Description: https://datasheet.ciiva.com/16387/mmbt3906lt1; ComponentLink5URL: https://datasheet.ciiva.com/976/mmbt3906lt1-d; ComponentLink5Description: https://datasheet.ciiva.com/976/mmbt3906lt1-d; ComponentLink6URL: https://datasheet.ciiva.com/976/mmbt3906lt1-d; ComponentLink6Description: https://datasheet.ciiva.com/976/mmbt3906lt1-d; ComponentLink7URL: https://datasheet.ciiva.com/976/mmbt3906lt1-d; ComponentLink7Description: https://datasheet.ciiva.com/976/mmbt3906lt1-d; Series: -
footprint ONSC-SOT-23-3-318-08_V (SOT23, 3-Leads, Body 3.04x1.4mm, Pitch 0.95mm)
footprint sot23-3
pins: 1 B, 2 E, 3 C